# EAGLE library part VDRM_171040302 (library Eagle_STEP-DOWN-CONVERTER (rev18c))
MagI³C Power Module VDRM – Variable Step Down Regulator Module 2.95 – 6V / 4A / 0.8 – 3.6V Output DESCRIPTION The Magi3C 171020302, 171040302 and 171060302 Power Module family provide a fully integrated DC-DC power supply including the switching regulator, regulation loop, power mosfets and shielded inductor in one package. This modules require as few as 3 external components. The 171040302 offers high efficiency and delivers up to 4A of output current. It operates from 2.95 to 6V input voltage and is designed for fast transient response. It is available in a standard industrial high power density QFN package (11mm x 9mm x 2.8mm) with very good thermal performance. This module has an on-board protection circuitry to guard against thermal overstress and electrical damage featuring thermal shut-down, over-current, short-circuit,over-voltage and under-voltage protections. FEATURES •Peak efficiency up to 96% •Current capability up to 4A •Output voltage range: 0.8 to 3.6V •Current Mode control •Synchronuos operation •1% reference accuracy over temperature •Adjustable switching frequency (0.5 to 2 MHz) •Continuous output power: 14.4W •No derating within the operating temperature range •Integrated shielded inductor •Under-voltage lockout protection •Programmable soft-start and voltage tracking •Frequency synchronization to external clock •Thermal shutdownl •Operating ambient temperature up to 85°C •Inrush current protection •Adjustable soft start and sequencing •Cycle by cycle short circuit protection •Under-voltage and over-voltage Power Good •Pin compatible with WE171040302 & WE171060302 •Complies with EN55022 class B radiated emissions standard TYPICAL APPLICATIONS •Point-of-load DC-DC applications from 5V and 3.3V rails •Industrial, test & measurement, medical applications •System power supplies •DSPs, FPGAs, MCUs and MPU supply •Communication infrastructure •High density distributed power systems <http://katalog.we-online.de/media/images/v2/MagIC_VDRM_pf2(3).jpg> Details see: http://katalog.we-online.de/pm/datasheet/171040302.pdf 2015 (C) Würth Elektronik
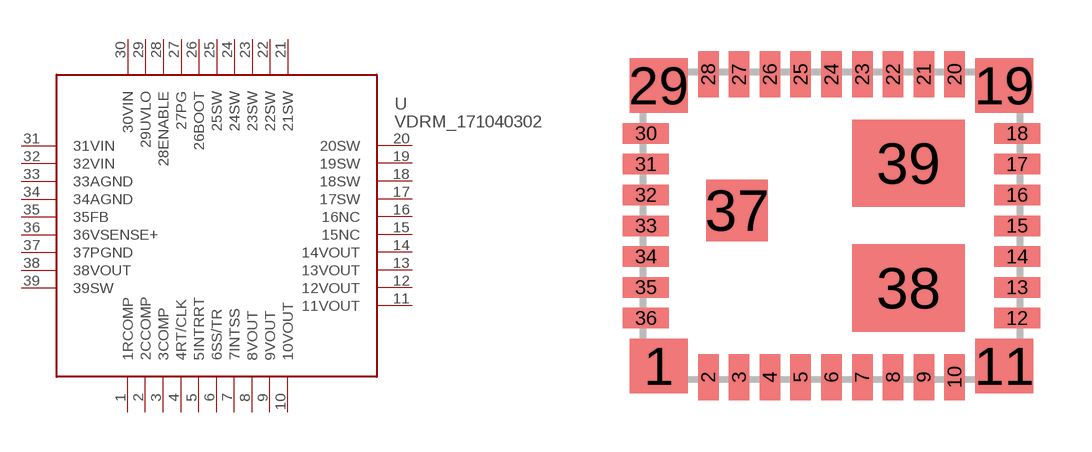
[diagram p8: symbol with the pads of VDRM_1710X0302; footprint VDRM_1710X0302]

Designator prefix U

## VDRM_171040302  [VDRM_1710X0302]
1  1RCOMP
2  2CCOMP
3  3COMP
4  4RT/CLK
5  5INTRRT
6  6SS/TR
7  7INTSS
8  8VOUT
9  9VOUT
10  10VOUT
11  11VOUT
12  12VOUT
13  13VOUT
14  14VOUT
15  15NC
16  16NC
17  17SW
18  18SW
19  19SW
20  20SW
21  21SW
22  22SW
23  23SW
24  24SW
25  25SW
26  26BOOT
27  27PG
28  28ENABLE
29  29UVLO
30  30VIN
31  31VIN
32  32VIN
33  33AGND
34  34AGND
35  35FB
36  36VSENSE+
37  37PGND
38  38VOUT
39  39SW

## Footprint VDRM_1710X0302 (pad centres in mm)
smd 1.7 x 1.6: 1 -5.05,-4.1; 11 5.05,-4.1; 19 5.05,4.1; 29 -5.05,4.1
smd 0.6 x 1.35: 2 -3.6,-4.425; 3 -2.7,-4.425; 4 -1.8,-4.425; 5 -0.9,-4.425; 6 0,-4.425; 7 0.9,-4.425; 8 1.8,-4.425; 9 2.7,-4.425; 10 3.6,-4.425; 20 3.6,4.425; 21 2.7,4.425; 22 1.8,4.425; 23 0.9,4.425; 24 0,4.425; 25 -0.9,4.425; 26 -1.8,4.425; 27 -2.7,4.425; 28 -3.6,4.425
smd 1.35 x 0.6: 12 5.425,-2.7; 13 5.425,-1.8; 14 5.425,-0.9; 15 5.425,0; 16 5.425,0.9; 17 5.425,1.8; 18 5.425,2.7; 30 -5.425,2.7; 31 -5.425,1.8; 32 -5.425,0.9; 33 -5.425,0; 34 -5.425,-0.9; 35 -5.425,-1.8; 36 -5.425,-2.7
smd 1.8 x 1.8: 37 -2.76,0.45
smd 3.3 x 2.56: 38 2.25,-1.82
smd 3.3 x 2.55: 39 2.25,1.825